# Altium schematic symbol library xl-3528rgbw-hm.SchLib: 1 symbol
Pins are listed as number, name and electrical type; pins without a type are passive.

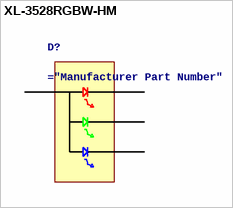
[diagram p0: symbol XL-3528RGBW-HM]

## XL-3528RGBW-HM
designator D?
LED Multi-Color Chip Red/Green/Blue 621nm/525nm/468nm 25mA/15mA/15mA 4-Pin PLCC T/R
pins: 1, 2, 3, 4